# Altium schematic symbol library TLT.SchLib: 1 symbol
Pins are listed as number, name and electrical type; pins without a type are passive.

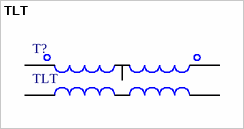
[diagram p0: symbol TLT]

## TLT
designator T?
pins: 1 SECONDARY_DOT, 2 NO CONNECT, 3 SECONDARY, 4 PRIMARY, 6 PRIMARY_DOT